# Altium footprint library Teste_Altium.PcbLib: 4 footprints
Each footprint in its own frame and in the unit in brackets; x right, y up, seen from the top. Pads: shape width x height; smd on the part's side, far side on the other; paste and mask are expansions set on the pad; w line width, h text height; cw(c..) or ccw(c..) is an arc to the next point about the centre after c.
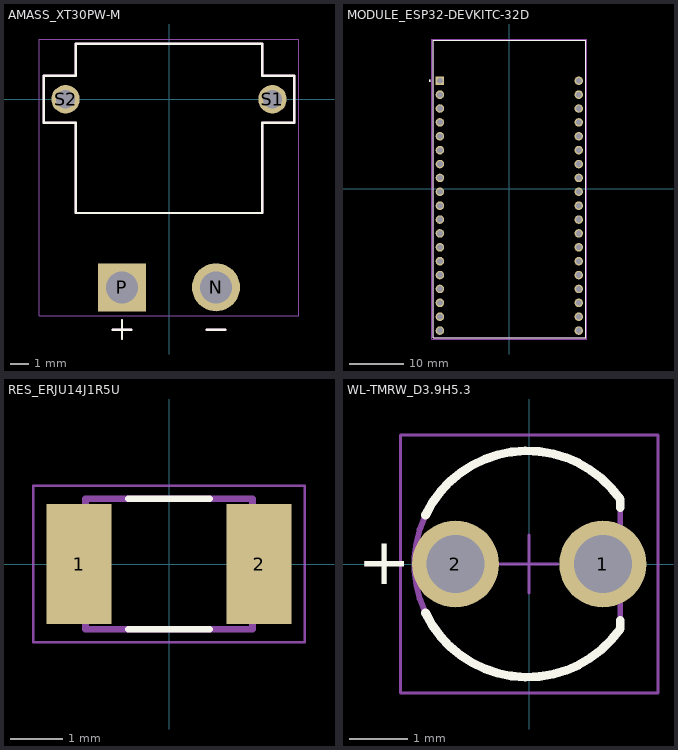
[diagram p0: the footprints below, top view; thin cyan lines are the x and y axes]

## AMASS_XT30PW-M [mm]
height 5
pads (4):
  round 2.55 hole 1.7: N(2.5,-10)
  rect 2.55x2.55 / inner round 2.55 / far side rect 2.55x2.55 hole 1.7: P(-2.5,-10)
  round 1.508 hole 1: S1(5.5,0) S2(-5.5,0)
Top Overlay:
  lines w0.127: -3,-12.25 -2,-12.25 ; -2.5,-12.75 -2.5,-11.75 ; 2,-12.25 3,-12.25 ; -6.65,-1.25 -6.65,1.25 -4.95,1.25 -4.95,2.95 4.95,2.95 4.95,1.25 6.65,1.25 6.65,-1.25 4.95,-1.25 4.95,-6.05 -4.95,-6.05 -4.95,-1.25 -6.65,-1.25
Mechanical 13:
  lines w0.127: -3,-12.25 -2,-12.25 ; -2.5,-12.75 -2.5,-11.75 ; 2,-12.25 3,-12.25 ; -6.65,-1.25 -6.65,1.25 -4.95,1.25 -4.95,2.95 4.95,2.95 4.95,1.25 6.65,1.25 6.65,-1.25 4.95,-1.25 4.95,-6.05 -4.95,-6.05 -4.95,-1.25 -6.65,-1.25
Mechanical 15:
  lines w0.05: -6.9,-11.525 6.9,-11.525 6.9,3.2 -6.9,3.2 -6.9,-11.525
3D body "step_temp.STEP": height 5, standoff -2, extent -6.65,-11 6.65,2.95

## MODULE_ESP32-DEVKITC-32D [mm]
pads (38):
  rect 1.56x1.56 / inner round 1.56 / far side rect 1.56x1.56 hole 1.04: J2-1(-12.7,19.76)
  round 1.56 hole 1.04: J2-2(-12.7,17.22) J2-3(-12.7,14.68) J2-4(-12.7,12.14) J2-5(-12.7,9.6) J2-6(-12.7,7.06) J2-7(-12.7,4.52) J2-8(-12.7,1.98) J2-9(-12.7,-0.56) J2-10(-12.7,-3.1) J2-11(-12.7,-5.64) J2-12(-12.7,-8.18) J2-13(-12.7,-10.72) J2-14(-12.7,-13.26) J2-15(-12.7,-15.8) J2-16(-12.7,-18.34) J2-17(-12.7,-20.88) J2-18(-12.7,-23.42) J2-19(-12.7,-25.96) J3-1(12.7,19.76) J3-2(12.7,17.22) J3-3(12.7,14.68) J3-4(12.7,12.14) J3-5(12.7,9.6) J3-6(12.7,7.06) J3-7(12.7,4.52) J3-8(12.7,1.98) J3-9(12.7,-0.56) J3-10(12.7,-3.1) J3-11(12.7,-5.64) J3-12(12.7,-8.18) J3-13(12.7,-10.72) J3-14(12.7,-13.26) J3-15(12.7,-15.8) J3-16(12.7,-18.34) J3-17(12.7,-20.88) J3-18(12.7,-23.42) J3-19(12.7,-25.96)
Top Overlay:
  circle w0.2: c-14.6,19.76 r0.1
  lines w0.127: -13.95,-27.25 13.95,-27.25 13.95,27.15 -13.95,27.15 -13.95,-27.25
Mechanical 13:
  circle w0.2: c-14.6,19.76 r0.1
  lines w0.127: -13.95,-27.25 -13.95,27.15 13.95,27.15 13.95,-27.25 -13.95,-27.25
Mechanical 15:
  lines w0.05: -14.2,-27.5 -14.2,27.4 14.2,27.4 14.2,-27.5 -14.2,-27.5
3D body "step_temp.STEP": height 6.69, standoff -6, extent -13.97,-27.9 13.97,27.2

## RES_ERJU14J1R5U [mm]
height 0.6
pads (2):
  rect 1.25x2.3 smd: 1(-1.725,0) 2(1.725,0)
Top Overlay:
  lines w0.127: -0.78,-1.25 0.78,-1.25 ; -0.78,1.25 0.78,1.25
Mechanical 13:
  lines w0.127: -1.6,-1.25 1.6,-1.25 1.6,1.25 -1.6,1.25 -1.6,-1.25
Mechanical 15:
  lines w0.05: -2.6,-1.5 2.6,-1.5 2.6,1.5 -2.6,1.5 -2.6,-1.5
3D body "step_temp.STEP": height 0.6, standoff 0, extent -1.6,-1.25 1.6,1.25

## WL-TMRW_D3.9H5.3 [mm] "THT Mono-color Round LED, 2-leads"
height 5.3
pads (2):
  round 1.5 hole 1: 1(1.27,0) 2(-1.27,0)
Top Overlay:
  lines w0.15: -1.788,-0.844 ccw(c-0.03,0) 1.571,-1.114 1.571,-0.971 ; -1.788,0.844 cw(c-0.03,0) 1.571,1.114 1.571,0.971
  text "+" at -2.95,-0.35 h0.8
Top Courtyard:
  lines w0.05: -0.5,0 0.5,0 ; 0,-0.5 0,0.5 ; -2.22,-2.22 -2.22,2.22 2.22,2.22 2.22,-2.22 -2.22,-2.22
Top Designator:
  text ".Designator" at -4.998,-0.333 h1
Top Component Outline:
  lines w0.1: 1.57,-1.113 1.57,1.113 ; 1.571,-1.113 cw(c-0.03,0) 1.571,1.114
3D body "151034xxx.stp": height 5.3, standoff -26.4, extent -1.966,-1.95 1.604,1.949